# Altium schematic symbol library TF-01A.SchLib: 1 symbol
Pins are listed as number, name and electrical type; pins without a type are passive.

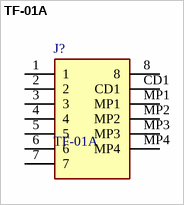
[diagram p0: symbol TF-01A]

## TF-01A
designator J?
Connector - Card Sockets 8 1.1mm SMD RoHS; Manufacturer_Name: Korean Hroparts Elec; Geometry.Height: 1.85mm; Manufacturer_Part_Number: TF-01A; Mouser Part Number: *; Mouser Price/Stock: *; Arrow Part Number: *; Arrow Price/Stock: *; Datasheet Link: https://datasheet.lcsc.com/szlcsc/1903221101_Korean-Hroparts-Elec-TF-01A_C91145.pdf
footprint TF01A
pins: 1, 2, 3, 4, 5, 6, 7, 8, CD1, MP1, MP2, MP3, MP4